# EAGLE library part EEPROM24 (library pimoroni-ics)
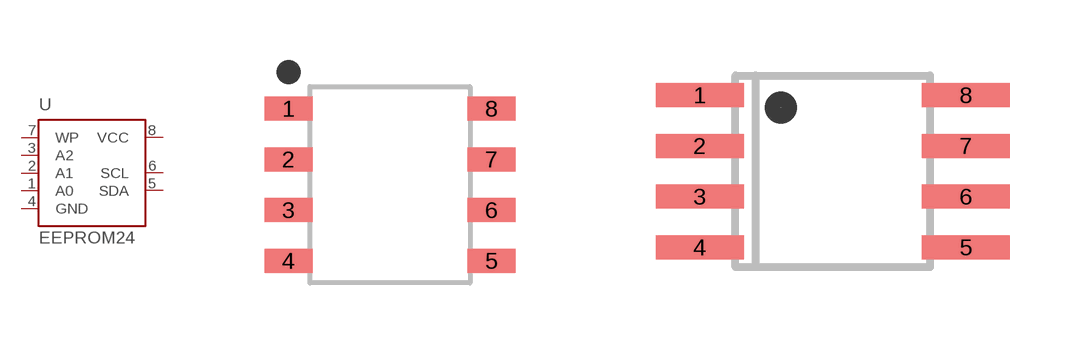
[diagram p49: symbol with the pads of SOIC8-150MIL; footprints SOIC8-150MIL, SOIC8-LONGPAD]

Designator prefix U

## EEPROM24  [SOIC8-150MIL]
1  A0  in
2  A1  in
3  A2  in
4  GND  pwr
5  SDA
6  SCL  in
7  WP  in
8  VCC  pwr

## EEPROM24LONGPAD  [SOIC8-LONGPAD]
Pads as for SOIC8-150MIL

## Footprint SOIC8-150MIL (pad centres in mm)
smd 1.2 x 0.6: 1 -2.54,1.905; 2 -2.54,0.635; 3 -2.54,-0.635; 4 -2.54,-1.905; 5 2.54,-1.905; 6 2.54,-0.635; 7 2.54,0.635; 8 2.54,1.905

## Footprint SOIC8-LONGPAD (pad centres in mm)
smd 2.2 x 0.6: 1 -3.33,1.905; 2 -3.33,0.635; 3 -3.33,-0.635; 4 -3.33,-1.905; 5 3.33,-1.905; 6 3.33,-0.635; 7 3.33,0.635; 8 3.33,1.905